# EAGLE library part DS3231 (library UNIT_Biblioteca_Modulos)
DS32341 Source: Datasheet <https://www.analog.com/media/en/technical-documentation/data-sheets/ds3231.pdf> SKU: Propietario: UNIT Electronics Desarrollador:
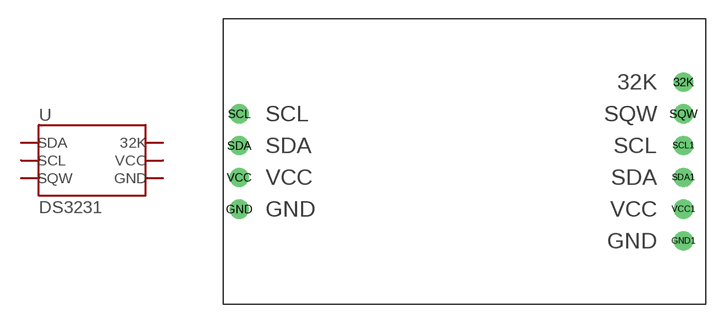
[diagram p28: symbol with the pads of DS3231; footprint DS3231]

Designator prefix U

## DS3231 (CLASS: Modules; DESCRIPTION: I2C real-time clock (RTC); MANUFACTURER_NAME: Analog Devices; MANUFACTURER_PART_NUMBER: DS3231; VENDOR_PART_NUMBER: AR3045; VENDOR_PRICE-STOCK: https://uelectronics.com/producto/ds3231-reloj-de-tiempo-real-rtc/)  [DS3231]
32K  32K
GND  GND
GND1  GND
SCL  SCL
SCL1  SCL
SDA  SDA
SDA1  SDA
SQW  SQW
VCC  VCC
VCC1  VCC

## Footprint DS3231 (pad centres in mm)
drill 1.02: 32K 17.48,6.35; GND -17.98,-3.81; GND1 17.48,-6.35; SCL -17.98,3.81; SCL1 17.48,1.27; SDA -17.98,1.27; SDA1 17.48,-1.27; SQW 17.48,3.81; VCC -17.98,-1.27; VCC1 17.48,-3.81